# Altium footprint library 749013011.PcbLib: 1 footprints
Each footprint in its own frame and in the unit in brackets; x right, y up, seen from the top. Pads: shape width x height; smd on the part's side, far side on the other; paste and mask are expansions set on the pad; w line width, h text height; cw(c..) or ccw(c..) is an arc to the next point about the centre after c.
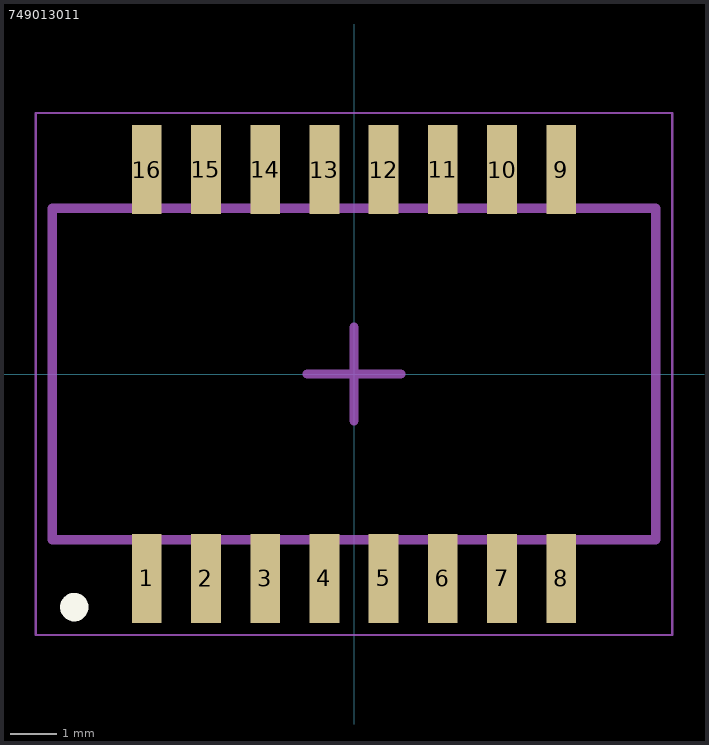
[diagram p0: the footprint, top view; thin cyan lines are the x and y axes]

## 749013011 [mm]
pads (16):
  rect 0.64x1.91 smd paste-2: 1(-4.445,-4.385) 2(-3.175,-4.385) 3(-1.905,-4.385) 4(-0.635,-4.385) 5(0.635,-4.385) 6(1.905,-4.385) 7(3.175,-4.385) 8(4.445,-4.385) 9(4.445,4.385) 10(3.175,4.385) 11(1.905,4.385) 12(0.635,4.385) 13(-0.635,4.385) 14(-1.905,4.385) 15(-3.175,4.385) 16(-4.445,4.385)
Top Overlay:
  circle w0.305: c-6,-5 r0.152
Top Paste:
  drawing of 144 lines, arcs and shapes, not listed
Mechanical 13:
  lines w0.2: -6.475,-3.555 6.475,-3.555 6.475,3.555 -6.475,3.555 -6.475,-3.555
Mechanical 15:
  lines w0.05: -6.825,-5.6 6.825,-5.6 6.825,5.6 -6.825,5.6 -6.825,-5.6
  lines w0.2: -1,0 1,0 ; 0,-1 0,1
3D body "749013011A+(rev1).stp": height 5.4, standoff 0, extent -6.1,-4.76 6.1,4.76